# Altium integrated library IC.IntLib: 26 symbols
Pins are listed as number, name and electrical type; pins without a type are passive.

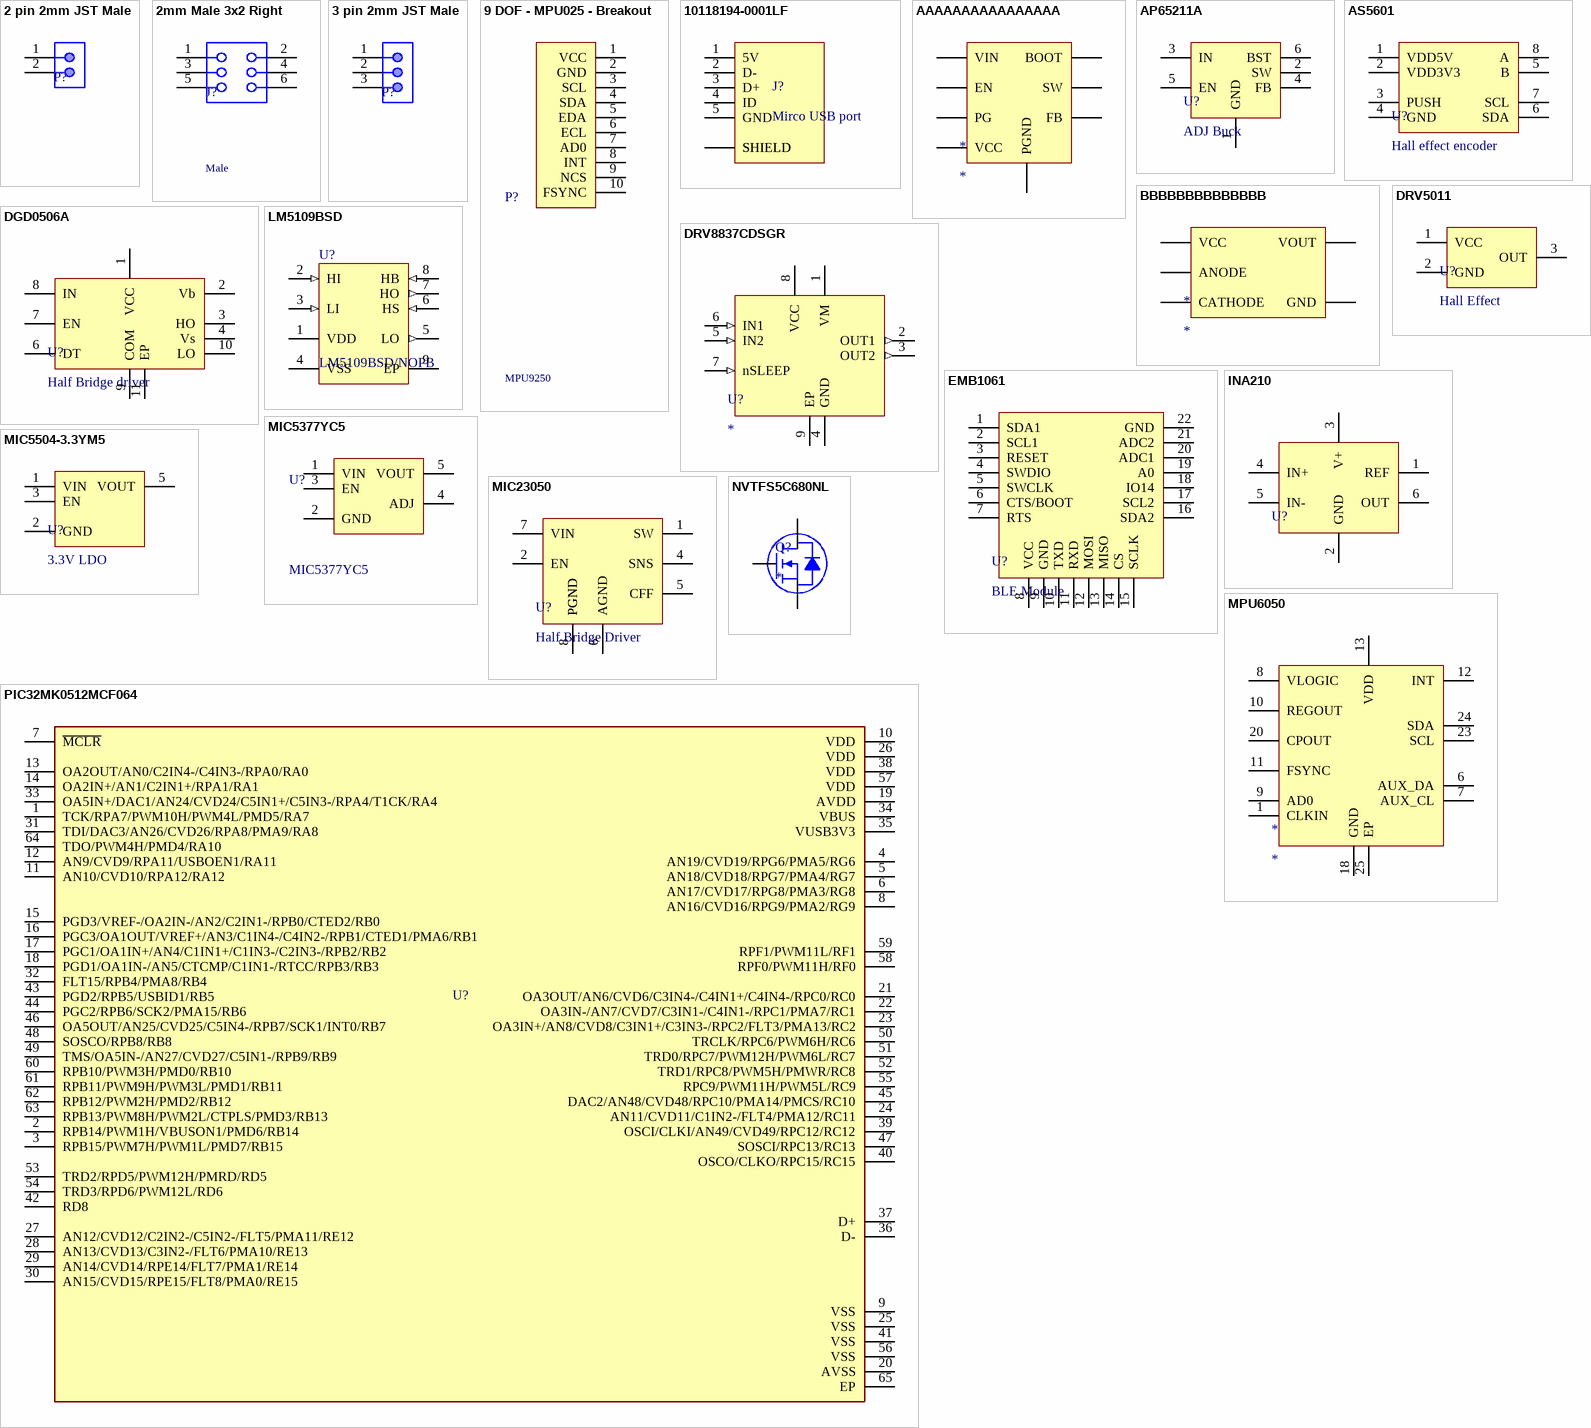
[diagram p0: symbols 2 pin 2mm JST Male to PIC32MK0512MCF064]

## 2 pin 2mm JST Male
designator P?
footprint 2pin - 2mm JST male
pins: 1, 2

## 2mm Male 3x2 Right
designator J?, comment Male
2mm Male 3x2 Right; Manufacturer Part Number: 62000621821; Manufacturer: Wurth Elektronik; Pin Number: 6; Gender: Socket Header; Rated Current: 2A; Working Voltage: 250VAC; Withstanding Voltage: 500VAC; Contact Resistance: 20mOhm; Row Number: Dual; ComponentLink1Description: Manufacturer; ComponentLink1URL: http://www.we-online.de; ComponentLink2Description: Datasheet; ComponentLink2URL: https://www.we-online.com/catalog/datasheet/62000621821.pdf; Published Date: May 2020; Pitch: 2mm; Operating Temperature: -40 to +105degC; Mounting Technology: THT; Packaging: Tube; Orientation: Vertical
footprint 2mm 3x2 Male Right (Socket Header, Pitch 2.00 mm, THT, Vertical, dual row, 6p)
pins: 1, 2, 3, 4, 5, 6

## 3 pin 2mm JST Male
designator P?
footprint 3pin - 2mm header
pins: 1, 2, 3

## 9 DOF - MPU025 - Breakout
designator P?, comment MPU9250
9 DOF - MPU025- Breakout; Manufacturer Part Number: 61301011121; Manufacturer: Wurth Elektronik; Pin Number: 10; Pitch: 2.54mm; Gender: Pin Header; Rated Current: 3A; Working Voltage: 250VAC; Withstanding Voltage: 500VAC; Contact Resistance: 20mOhm; Row Number: Single; ComponentLink1Description: Manufacturer; ComponentLink1URL: http://www.we-online.de; ComponentLink2Description: Datasheet; ComponentLink2URL: https://www.we-online.com/catalog/datasheet/61301011121.pdf; Published Date: May 2020; Operating Temperature: -40 to +105degC; Mounting Technology: THT; Packaging: Bag; Orientation: Vertical
footprint MPU 9150 - 10 pin 0.1" (Pin Header, pitch 2.54 mm, THT, Vertical, single row, 10p)
pins: 1 VCC, 2 GND, 3 SCL, 4 SDA, 5 EDA, 6 ECL, 7 AD0, 8 INT, 9 NCS, 10 FSYNC

## 10118194-0001LF
designator J?, comment Mirco USB port
USB - micro B USB 2.0 Receptacle Connector 5 Position Surface Mount, Right Angle; Through Hole; MF: Amphenol ICC; MP: 10118194-0001LF; Package: None; Price: None; Availability: Unavailable; SnapEDA_Link: https://www.snapeda.com/parts/10118194-0001LF/Amphenol%20FCI/view-part/1413308/?ref=snap; Value: *
footprint AMPHENOL_10118194-0001LF
pins: 1 5V, 2 D-, 3 D+, 4 ID, 5 GND, S1 SHIELD, S2 SHIELD, S3 SHIELD, S4 SHIELD, S5 SHIELD, S6 SHIELD

## AAAAAAAAAAAAAAAA
designator *
pins: 19 VIN, 19 EN, 19 PGND, 19 VCC, 19 BOOT, 19 SW, 19 PG, 19 FB

## AP65211A
designator U?, comment ADJ Buck
ADJ step down Buck
footprint TSOT-26-6
pins: 1 GND, 2 SW, 3 IN, 4 FB, 5 EN, 6 BST

## AS5601
designator U?, comment Hall effect encoder
Hall effect rotary encoder - AB quadrature out
footprint SOIC-8
pins: 1 VDD5V, 2 VDD3V3, 3 PUSH, 4 GND, 5 B, 6 SDA, 7 SCL, 8 A

## BBBBBBBBBBBBBB
designator *
pins: 19 ANODE, 19 CATHODE, 19 GND, 19 VCC, 19 VOUT

## DGD0506A
designator U?, comment Half Bridge driver
Half Bridge driver - N FET
footprint 10-WDFN3030
pins: 1 VCC, 2 Vb, 3 HO, 4 Vs, 6 DT, 7 EN, 8 IN, 9 COM, 10 LO, 11 EP

## DRV5011
designator U?, comment Hall Effect
Hall Effect Sensor - Bipolar
footprint DRV5011ADLPG
pins: 1 VCC, 2 GND, 3 OUT

## DRV8837CDSGR
designator U?
11-V, 1-A H-bridge motor driver 8-WSON -40 to 85; MF: Texas Instruments; MP: DRV8837CDSGR; Mouser-Purchase-URL: https://snapeda.com/shop?store=Mouser&id=617854; Value: *; DigiKey-Purchase-URL: https://snapeda.com/shop?store=DigiKey&id=617854; Package: WSON-8 Texas Instruments; Texas_Instruments-Purchase-URL: https://snapeda.com/shop?store=Texas+Instruments&id=617854; Price: None; SnapEDA_Link: https://www.snapeda.com/parts/DRV8837CDSGR/Texas%20Instruments/view-part/617854/?ref=snap; Availability: Good
footprint SON50P200X200X80-9N
pins: 1 VM (power), 2 OUT1 (out), 3 OUT2 (out), 4 GND (power), 5 IN2 (in), 6 IN1 (in), 7 nSLEEP (in), 8 VCC (power), 9 EP (power)

## EMB1061
designator U?, comment BLE Module
EMB1061 - BLE module
footprint EMB1061 -SMT
pins: 1 SDA1, 2 SCL1, 3 RESET, 4 SWDIO, 5 SWCLK, 6 CTS/BOOT, 7 RTS, 8 VCC, 9 GND, 10 TXD, 11 RXD, 12 MOSI, 13 MISO, 14 CS, 15 SCLK, 16 SDA2, 17 SCL2, 18 IO14, 19 A0, 20 ADC1, 21 ADC2, 22 GND

## INA210
designator U?
Current sense amplifier
footprint TI SC70-6 DCK (SC70, 6-Leads, Body 2.00x2.10mm, Pitch 0.65mm, IPC Medium Density)
pins: 1 REF, 2 GND, 3 V+, 4 IN+, 5 IN-, 6 OUT

## LM5109BSD
designator U?, comment LM5109BSD/NOPB
High Voltage 1A Peak Half-Bridge Gate Driver, 8-pin LLP, Pb-Free; Manufacturer: Texas Instruments; PackageTopMarking: NS*UZXYTT*5109BSD; CompType: MiscPower; PowerWise: N; PackageDescription: LLP, Plastic, Dual, 4 x 4 x 0.8mm Body, 8 Lead, 0.8mm Pitch, No Pullback; PinCount: 8; RoHS: Y; PackageReference: NGT0008A; ComponentLink1URL: http://www.ti.com/general/docs/lit/getliterature.tsp?genericPartNumber=LM5109B&fileType=pdf; ComponentLink1Description: Datasheet URL
footprint 8-WDFN
pins: 1 VDD (power), 2 HI (in), 3 LI (in), 4 VSS (power), 5 LO (out), 6 HS (in), 7 HO (out), 8 HB (in), 9 EP (power)

## MIC5377YC5
designator U?
IC REG LIN POS ADJ 150MA SOT23-5; Manufacturer: Texas Instruments; Control Features: Enable; Current - Quiescent (Iq): 100µA; Current - Supply (Max): 140µA; Number of Regulators: 1; Output Configuration: Positive; Output Type: Adjustable; Protection Features: Over Current, Over Temperature, Reverse Polarity; PSRR: 60dB (1kHz); Voltage - Input (Max): 10V; Voltage - Output (Max): 6.5V; Voltage - Output (Min/Fixed): 1.5V; Part Number: MIC5377YC5; ComponentLink1Description: Datasheet; ComponentLink1URL: http://www.ti.com/general/docs/suppproductinfo.tsp?distId=10&gotoUrl=http%3A%2F%2Fwww.ti.com%2Flit%2Fgpn%2Ftps763; ComponentLink2Description: DigiKey Link; ComponentLink2URL: http://digikey.com/product-detail/en/texas-instruments/TPS76301DBVR/296-11014-1-ND/477331; Current - Output: 150mA; Device Package: SC-74A, SOT-753; LastUpdated: 18-Jan-20 8:02:45 PM; Lifecycle Status: Active; Minimum Order: 1; Mounting Type: Surface Mount; Operating Temperature: -40°C ~ 125°C; Package / Case: SC-74A, SOT-753; Packaging: TapeAndReel; Part Status: Active; Price: 0.33; Series: -; Supplier 1: DigiKey; Supplier Part Number 1: 296-11014-1-ND; Supplier Device Package: SOT-23-5
footprint TI SOT-23-5 DBV
footprint 5 pin SC-70
pins: 1 VIN "Desc1", 2 GND "Desc1", 3 EN "Desc1", 4 ADJ "Desc1", 5 VOUT "Desc1"

## MIC5504-3.3YM5
designator U?, comment 3.3V LDO
footprint TI SOT-23-5 DBV (SOT23, 5-Leads, Body 2.90x2.80mm, Pitch 0.95mm, IPC Medium Density)
pins: 1 VIN "Desc1", 2 GND "Desc1", 3 EN "Desc1", 5 VOUT "Desc1"

## MIC23050
designator U?, comment Half Bridge Driver
footprint MLF-8 2x2mm
pins: 1 SW, 2 EN, 4 SNS, 5 CFF, 6 AGND, 7 VIN, 8 PGND, 9 PGND

## MPU6050
designator *
footprint IC_MPU6050
pins: 1 CLKIN, 6 AUX_DA, 7 AUX_CL, 8 VLOGIC, 9 AD0, 10 REGOUT, 11 FSYNC, 12 INT, 13 VDD, 18 GND, 20 CPOUT, 23 SCL, 24 SDA, 25 EP

## NVTFS5C680NL
designator Q?
N-FET
footprint NVTFS015N04CTAG
pins: 1 S, 2 S, 3 S, 4 G, 5 D, 6 D, 7 D, 8 D

## PIC32MK0512MCF064
designator U?
PIC32MK Microcontroller IC 32-Bit 120MHz 1MB _1M x 8_ FLASH 64-TQFP _10x10_; MP: PIC32MK1024MCF064-I/PT; MF: Microchip; Digi-Key_Purchase_URL: https://www.digikey.kr/product-detail/en/microchip-technology/PIC32MK1024MCF064-I-PT/PIC32MK1024MCF064-I-PT-ND/7164902?utm_source=snapeda&utm_medium=aggregator&utm_campaign=symbol; Package: TQFP-64 Microchip; Digi-Key_Part_Number: PIC32MK1024MCF064-I/PT-ND; Value: *; SnapEDA_Link: https://www.snapeda.com/parts/PIC32MK1024MCF064-I/PT/Microchip/view-part/876704/?ref=snap
footprint QFN50P900X900X100-65N
pins: 1 TCK/RPA7/PWM10H/PWM4L/PMD5/RA7, 2 RPB14/PWM1H/VBUSON1/PMD6/RB14, 3 RPB15/PWM7H/PWM1L/PMD7/RB15, 4 AN19/CVD19/RPG6/PMA5/RG6, 5 AN18/CVD18/RPG7/PMA4/RG7, 6 AN17/CVD17/RPG8/PMA3/RG8, 7 ~{MCLR}, 8 AN16/CVD16/RPG9/PMA2/RG9, 9 VSS (power), 10 VDD (power), 11 AN10/CVD10/RPA12/RA12, 12 AN9/CVD9/RPA11/USBOEN1/RA11, 13 OA2OUT/AN0/C2IN4-/C4IN3-/RPA0/RA0, 14 OA2IN+/AN1/C2IN1+/RPA1/RA1, 15 PGD3/VREF-/OA2IN-/AN2/C2IN1-/RPB0/CTED2/RB0, 16 PGC3/OA1OUT/VREF+/AN3/C1IN4-/C4IN2-/RPB1/CTED1/PMA6/RB1, 17 PGC1/OA1IN+/AN4/C1IN1+/C1IN3-/C2IN3-/RPB2/RB2, 18 PGD1/OA1IN-/AN5/CTCMP/C1IN1-/RTCC/RPB3/RB3, 19 AVDD (power), 20 AVSS (power), 21 OA3OUT/AN6/CVD6/C3IN4-/C4IN1+/C4IN4-/RPC0/RC0, 22 OA3IN-/AN7/CVD7/C3IN1-/C4IN1-/RPC1/PMA7/RC1, 23 OA3IN+/AN8/CVD8/C3IN1+/C3IN3-/RPC2/FLT3/PMA13/RC2, 24 AN11/CVD11/C1IN2-/FLT4/PMA12/RC11, 25 VSS (power), 26 VDD (power), 27 AN12/CVD12/C2IN2-/C5IN2-/FLT5/PMA11/RE12, 28 AN13/CVD13/C3IN2-/FLT6/PMA10/RE13, 29 AN14/CVD14/RPE14/FLT7/PMA1/RE14, 30 AN15/CVD15/RPE15/FLT8/PMA0/RE15, 31 TDI/DAC3/AN26/CVD26/RPA8/PMA9/RA8, 32 FLT15/RPB4/PMA8/RB4, 33 OA5IN+/DAC1/AN24/CVD24/C5IN1+/C5IN3-/RPA4/T1CK/RA4, 34 VBUS (power), 35 VUSB3V3, 36 D-, 37 D+, 38 VDD (power), 39 OSCI/CLKI/AN49/CVD49/RPC12/RC12, 40 OSCO/CLKO/RPC15/RC15, 41 VSS (power), 42 RD8, 43 PGD2/RPB5/USBID1/RB5, 44 PGC2/RPB6/SCK2/PMA15/RB6, 45 DAC2/AN48/CVD48/RPC10/PMA14/PMCS/RC10, 46 OA5OUT/AN25/CVD25/C5IN4-/RPB7/SCK1/INT0/RB7, 47 SOSCI/RPC13/RC13, 48 SOSCO/RPB8/RB8, 49 TMS/OA5IN-/AN27/CVD27/C5IN1-/RPB9/RB9, 50 TRCLK/RPC6/PWM6H/RC6, 51 TRD0/RPC7/PWM12H/PWM6L/RC7, 52 TRD1/RPC8/PWM5H/PMWR/RC8, 53 TRD2/RPD5/PWM12H/PMRD/RD5, 54 TRD3/RPD6/PWM12L/RD6, 55 RPC9/PWM11H/PWM5L/RC9, 56 VSS (power), 57 VDD (power), 58 RPF0/PWM11H/RF0, 59 RPF1/PWM11L/RF1, 60 RPB10/PWM3H/PMD0/RB10, 61 RPB11/PWM9H/PWM3L/PMD1/RB11, 62 RPB12/PWM2H/PMD2/RB12, 63 RPB13/PWM8H/PWM2L/CTPLS/PMD3/RB13, 64 TDO/PWM4H/PMD4/RA10, 65 EP (power)

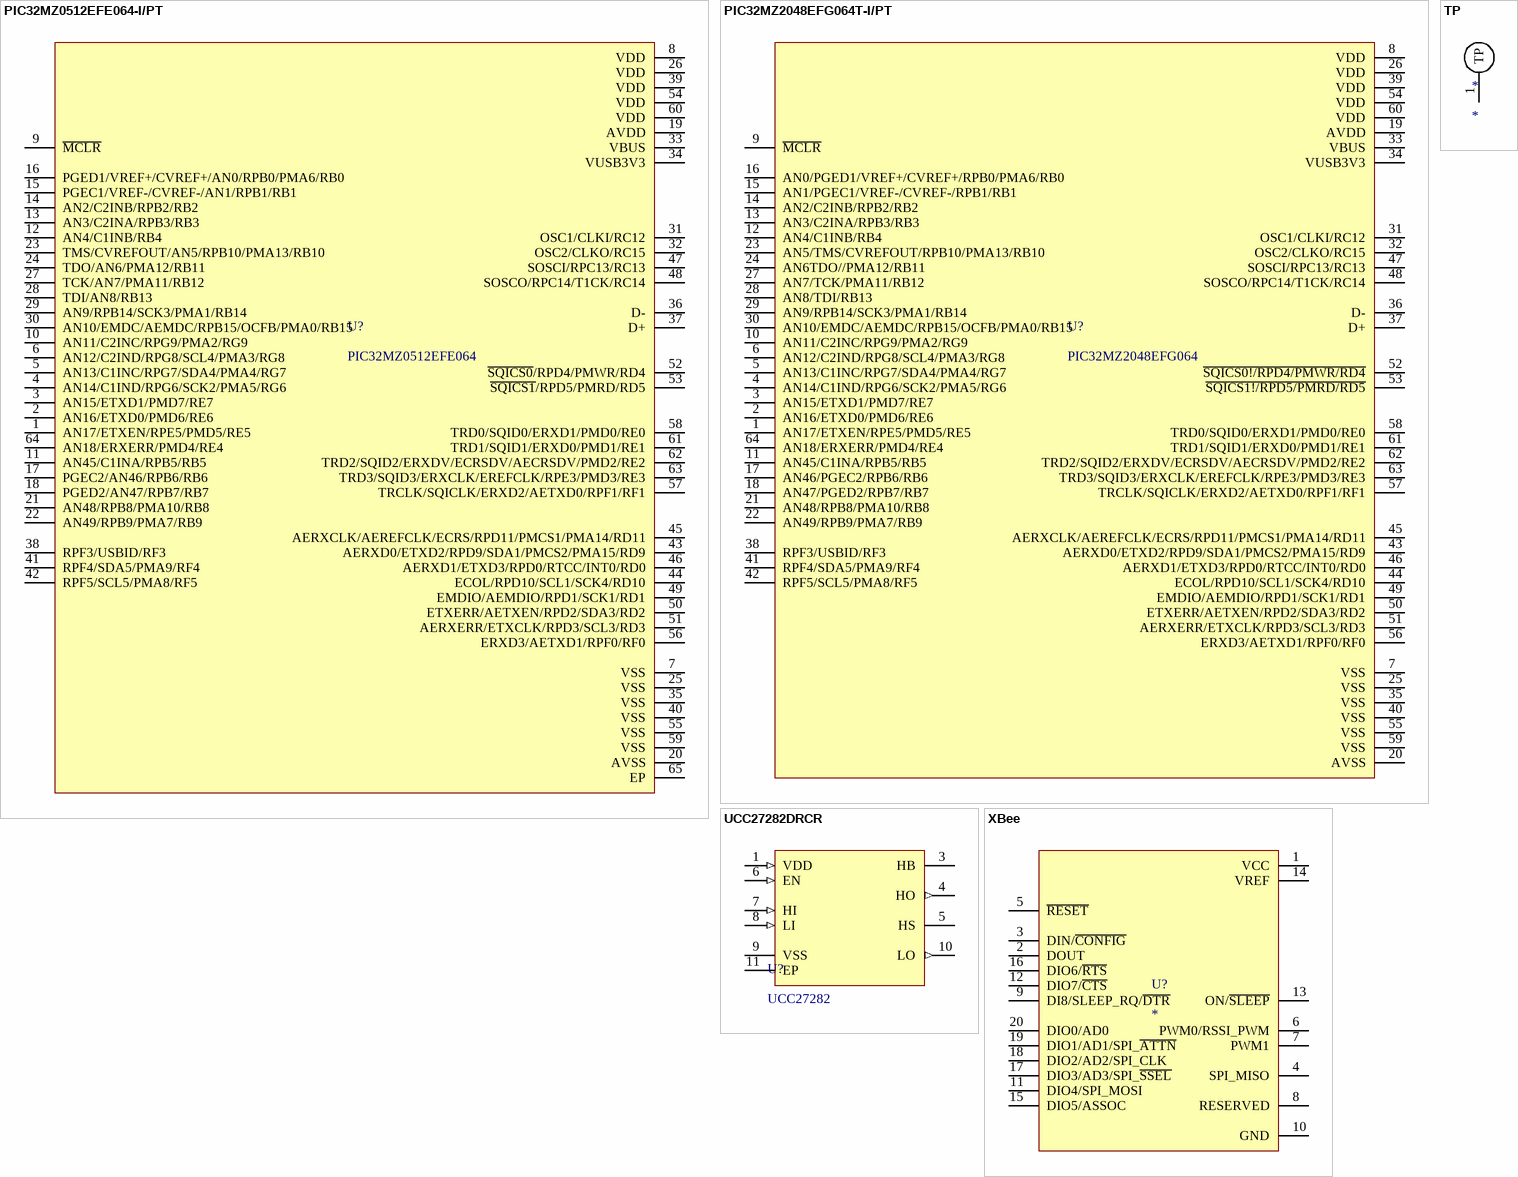
[diagram p1: symbols PIC32MZ0512EFE064-I/PT to XBee]

## PIC32MZ0512EFE064-I/PT
designator U?, comment PIC32MZ0512EFE064
32-bit Microcontrollers - MCU 32-BIT MCU 512KB FL 128KB RAM, No Crypto; MF: Microchip; MP: PIC32MZ2048EFG064T-I/PT; Price: None; Value: *; SnapEDA_Link: https://www.snapeda.com/parts/PIC32MZ2048EFG064T-I/PT/Microchip/view-part/565997/?ref=snap; Package: TQFP-64 Microchip; Availability: Unavailable
footprint QFN50P900X900X100-65N
pins: 1 AN17/ETXEN/RPE5/PMD5/RE5, 2 AN16/ETXD0/PMD6/RE6, 3 AN15/ETXD1/PMD7/RE7, 4 AN14/C1IND/RPG6/SCK2/PMA5/RG6, 5 AN13/C1INC/RPG7/SDA4/PMA4/RG7, 6 AN12/C2IND/RPG8/SCL4/PMA3/RG8, 7 VSS (power), 8 VDD (power), 9 ~{MCLR}, 10 AN11/C2INC/RPG9/PMA2/RG9, 11 AN45/C1INA/RPB5/RB5, 12 AN4/C1INB/RB4, 13 AN3/C2INA/RPB3/RB3, 14 AN2/C2INB/RPB2/RB2, 15 PGEC1/VREF-/CVREF-/AN1/RPB1/RB1, 16 PGED1/VREF+/CVREF+/AN0/RPB0/PMA6/RB0, 17 PGEC2/AN46/RPB6/RB6, 18 PGED2/AN47/RPB7/RB7, 19 AVDD (power), 20 AVSS (power), 21 AN48/RPB8/PMA10/RB8, 22 AN49/RPB9/PMA7/RB9, 23 TMS/CVREFOUT/AN5/RPB10/PMA13/RB10, 24 TDO/AN6/PMA12/RB11, 25 VSS (power), 26 VDD (power), 27 TCK/AN7/PMA11/RB12, 28 TDI/AN8/RB13, 29 AN9/RPB14/SCK3/PMA1/RB14, 30 AN10/EMDC/AEMDC/RPB15/OCFB/PMA0/RB15, 31 OSC1/CLKI/RC12, 32 OSC2/CLKO/RC15, 33 VBUS (power), 34 VUSB3V3 (power), 35 VSS (power), 36 D-, 37 D+, 38 RPF3/USBID/RF3, 39 VDD (power), 40 VSS (power), 41 RPF4/SDA5/PMA9/RF4, 42 RPF5/SCL5/PMA8/RF5, 43 AERXD0/ETXD2/RPD9/SDA1/PMCS2/PMA15/RD9, 44 ECOL/RPD10/SCL1/SCK4/RD10, 45 AERXCLK/AEREFCLK/ECRS/RPD11/PMCS1/PMA14/RD11, 46 AERXD1/ETXD3/RPD0/RTCC/INT0/RD0, 47 SOSCI/RPC13/RC13, 48 SOSCO/RPC14/T1CK/RC14, 49 EMDIO/AEMDIO/RPD1/SCK1/RD1, 50 ETXERR/AETXEN/RPD2/SDA3/RD2, 51 AERXERR/ETXCLK/RPD3/SCL3/RD3, 52 ~{SQICS0}/RPD4/PMWR/RD4, 53 ~{SQICS1}/RPD5/PMRD/RD5, 54 VDD (power), 55 VSS (power), 56 ERXD3/AETXD1/RPF0/RF0, 57 TRCLK/SQICLK/ERXD2/AETXD0/RPF1/RF1, 58 TRD0/SQID0/ERXD1/PMD0/RE0, 59 VSS (power), 60 VDD (power), 61 TRD1/SQID1/ERXD0/PMD1/RE1, 62 TRD2/SQID2/ERXDV/ECRSDV/AECRSDV/PMD2/RE2, 63 TRD3/SQID3/ERXCLK/EREFCLK/RPE3/PMD3/RE3, 64 AN18/ERXERR/PMD4/RE4, 65 EP (power)

## PIC32MZ2048EFG064T-I/PT
designator U?, comment PIC32MZ2048EFG064
PIC32MZ Microcontroller IC 32-Bit 200MHz 2MB (2M x 8) FLASH 64-TQFP (10x10); MF: Microchip; MP: PIC32MZ2048EFG064T-I/PT; Price: None; Value: *; SnapEDA_Link: https://www.snapeda.com/parts/PIC32MZ2048EFG064T-I/PT/Microchip/view-part/565997/?ref=snap; Package: TQFP-64 Microchip; Availability: Unavailable
footprint QFP-64
pins: 1 AN17/ETXEN/RPE5/PMD5/RE5, 2 AN16/ETXD0/PMD6/RE6, 3 AN15/ETXD1/PMD7/RE7, 4 AN14/C1IND/RPG6/SCK2/PMA5/RG6, 5 AN13/C1INC/RPG7/SDA4/PMA4/RG7, 6 AN12/C2IND/RPG8/SCL4/PMA3/RG8, 7 VSS (power), 8 VDD (power), 9 ~{MCLR}, 10 AN11/C2INC/RPG9/PMA2/RG9, 11 AN45/C1INA/RPB5/RB5, 12 AN4/C1INB/RB4, 13 AN3/C2INA/RPB3/RB3, 14 AN2/C2INB/RPB2/RB2, 15 AN1/PGEC1/VREF-/CVREF-/RPB1/RB1, 16 AN0/PGED1/VREF+/CVREF+/RPB0/PMA6/RB0, 17 AN46/PGEC2/RPB6/RB6, 18 AN47/PGED2/RPB7/RB7, 19 AVDD (power), 20 AVSS (power), 21 AN48/RPB8/PMA10/RB8, 22 AN49/RPB9/PMA7/RB9, 23 AN5/TMS/CVREFOUT/RPB10/PMA13/RB10, 24 AN6TDO//PMA12/RB11, 25 VSS (power), 26 VDD (power), 27 AN7/TCK/PMA11/RB12, 28 AN8/TDI/RB13, 29 AN9/RPB14/SCK3/PMA1/RB14, 30 AN10/EMDC/AEMDC/RPB15/OCFB/PMA0/RB15, 31 OSC1/CLKI/RC12, 32 OSC2/CLKO/RC15, 33 VBUS (power), 34 VUSB3V3 (power), 35 VSS (power), 36 D-, 37 D+, 38 RPF3/USBID/RF3, 39 VDD (power), 40 VSS (power), 41 RPF4/SDA5/PMA9/RF4, 42 RPF5/SCL5/PMA8/RF5, 43 AERXD0/ETXD2/RPD9/SDA1/PMCS2/PMA15/RD9, 44 ECOL/RPD10/SCL1/SCK4/RD10, 45 AERXCLK/AEREFCLK/ECRS/RPD11/PMCS1/PMA14/RD11, 46 AERXD1/ETXD3/RPD0/RTCC/INT0/RD0, 47 SOSCI/RPC13/RC13, 48 SOSCO/RPC14/T1CK/RC14, 49 EMDIO/AEMDIO/RPD1/SCK1/RD1, 50 ETXERR/AETXEN/RPD2/SDA3/RD2, 51 AERXERR/ETXCLK/RPD3/SCL3/RD3, 52 ~{SQICS0!/RPD4/PMWR/RD4}, 53 ~{SQICS1!/RPD5/PMRD/RD5}, 54 VDD (power), 55 VSS (power), 56 ERXD3/AETXD1/RPF0/RF0, 57 TRCLK/SQICLK/ERXD2/AETXD0/RPF1/RF1, 58 TRD0/SQID0/ERXD1/PMD0/RE0, 59 VSS (power), 60 VDD (power), 61 TRD1/SQID1/ERXD0/PMD1/RE1, 62 TRD2/SQID2/ERXDV/ECRSDV/AECRSDV/PMD2/RE2, 63 TRD3/SQID3/ERXCLK/EREFCLK/RPE3/PMD3/RE3, 64 AN18/ERXERR/PMD4/RE4

## TP
designator *
Test point w/ hole
footprint 2mmHole
pins: 1 TP

## UCC27282DRCR
designator U?, comment UCC27282
3-A, 120-V half bridge gate driver with 5-V UVLO, interlock and enable 10-VSON -40 to 125; MF: Texas Instruments; MP: UCC27282DRCR; Texas_Instruments-Purchase-URL: https://snapeda.com/shop?store=Texas+Instruments&id=3625400; Price: None; Availability: Warning; Package: VSON-10 Texas Instruments; SnapEDA_Link: https://www.snapeda.com/parts/UCC27282DRCR/Texas%20Instruments/view-part/3625400/?ref=snap; DigiKey-Purchase-URL: https://snapeda.com/shop?store=DigiKey&id=3625400; Value: *
footprint VSON-10
pins: 1 VDD (in), 3 HB (power), 4 HO (out), 5 HS (power), 6 EN (in), 7 HI (in), 8 LI (in), 9 VSS (power), 10 LO (out), 11 EP

## XBee
designator U?
802.15.4 Transceiver Module 2.4GHz Antenna Not Included, U.FL Through Hole
footprint XBee
pins: 1 VCC (power), 2 DOUT, 3 DIN/~{CONFIG}, 4 SPI_MISO, 5 ~{RESET}, 6 PWM0/RSSI_PWM, 7 PWM1, 8 RESERVED, 9 DI8/SLEEP_RQ/~{DTR}, 10 GND (power), 11 DIO4/SPI_MOSI, 12 DIO7/~{CTS}, 13 ON/~{SLEEP}, 14 VREF (power), 15 DIO5/ASSOC, 16 DIO6/~{RTS}, 17 DIO3/AD3/SPI_~{SSEL}, 18 DIO2/AD2/SPI_CLK, 19 DIO1/AD1/SPI_~{ATTN}, 20 DIO0/AD0